# EAGLE library part AS7C256A (library steves)
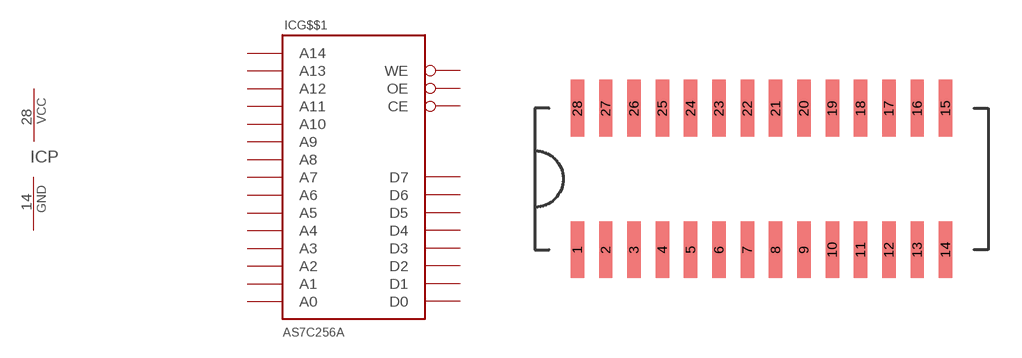
[diagram p22: symbol with the pads of SOJ-28-300; footprint SOJ-28-300]

Designator prefix IC; gates G$$1=SRAM-32KX8 P=PWRN

## AS7C256AJ  [SOJ-28-300]
1  G$$1:A14  in
2  G$$1:A12  in
3  G$$1:A7  in
4  G$$1:A6  in
5  G$$1:A5  in
6  G$$1:A4  in
7  G$$1:A3  in
8  G$$1:A2  in
9  G$$1:A1  in
10  G$$1:A0  in
11  G$$1:D0
12  G$$1:D1
13  G$$1:D2
14  P:GND  pwr
15  G$$1:D3
16  G$$1:D4
17  G$$1:D5
18  G$$1:D6
19  G$$1:D7
20  G$$1:CE  in
21  G$$1:A10  in
22  G$$1:OE  in
23  G$$1:A11  in
24  G$$1:A9  in
25  G$$1:A8  in
26  G$$1:A13  in
27  G$$1:WE  in
28  P:VCC  pwr

## Footprint SOJ-28-300 (pad centres in mm)
smd 0.635 x 2.54: 1 -7.62,-3.175; 2 -6.35,-3.175; 3 -5.08,-3.175; 4 -3.81,-3.175; 5 -2.54,-3.175; 6 -1.27,-3.175; 7 0,-3.175; 8 1.27,-3.175; 9 2.54,-3.175; 10 3.81,-3.175; 11 5.08,-3.175; 12 6.35,-3.175; 13 7.62,-3.175; 14 8.89,-3.175; 15 8.89,3.175; 16 7.62,3.175; 17 6.35,3.175; 18 5.08,3.175; 19 3.81,3.175; 20 2.54,3.175; 21 1.27,3.175; 22 0,3.175; 23 -1.27,3.175; 24 -2.54,3.175; 25 -3.81,3.175; 26 -5.08,3.175; 27 -6.35,3.175; 28 -7.62,3.175